# EAGLE library part 750342627 (library Wurth_Power Magnetics_WE-IBTI)
WE-IBTI Isolated Buck Transformers Characteristics Flybuck™ topology Operating Temp: -40°C to +125°C Excellent leakage inductance and interwinding capacitance performance Applications Industrial Programmable Logic Controllers (PLCs) Building automation and process control Isolated interface power: RS-422, RS-485, CAN, I2C, LAN Motor drive control, inverters and industrial automation Isolated low power drivers & regulators, smart e-meters Bias power supplies for gate drives and op-amps <https://www.we-online.com/components/media/o790826v209%20family-MID-IBTI.1673.jpg> Details see: www.we-online.com/en/components/products/WE-IBTI <www.we-online.com/catalog/WE-IBTI/?utm_source=eagle_model&utm_medium=description_link&utm_campaign=eisos_eagle> Created by Ella Wu 2024-06-07 2024 (C) Wurth Elektronik
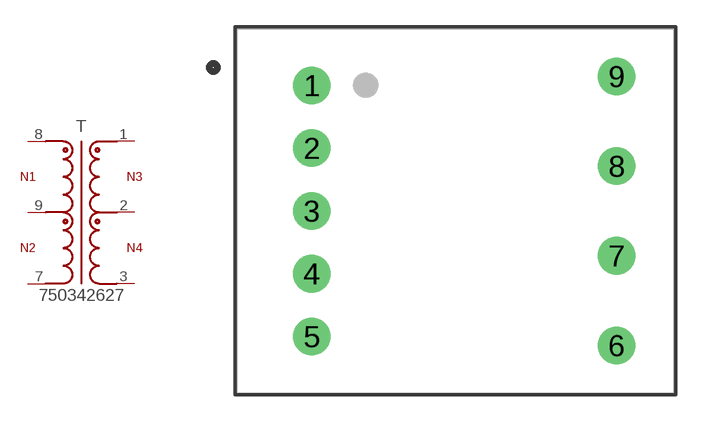
[diagram p28: symbol with the pads of WE-IBTI_EE16/8/5_L20.32W24.38H16; footprint WE-IBTI_EE16/8/5_L20.32W24.38H16]

Designator prefix T

## 750342627 (DATASHEET-URL: https://www.we-online.com/redexpert/spec/750342627?ae; FSWITCH: 200 - 350kHz; HEIGHT: 16mm; IOUT1: 250mA; ISAT: 2A; L: 20uH; LENGTH: 20.32mm; LS: 270nH; MOUNT: THT; N: 2.4:1; PART-NUMBER: 750342627; SIZE: EE16/8/5; VALUE: 750342627; VIN: 9 - 15 V (DC); VOUT1: 9V; VT: 4500V(AC); WIDTH: 24.38mm)  [WE-IBTI_EE16/8/5_L20.32W24.38H16]
1  1  pas
2  2  pas
3  3  pas
7  7  pas
8  8  pas
9  9  pas

## Footprint WE-IBTI_EE16/8/5_L20.32W24.38H16 (pad centres in mm)
WE-IBTI Isolated Buck Transformers Size: EE16/8/5,THT,9pins LXWXH=20.32X24.38X16mm
drill 1.4: 1 -8.5,7; 2 -8.5,3.5; 3 -8.5,0; 4 -8.5,-3.5; 5 -8.5,-7; 6 8.5,-7.5; 7 8.5,-2.5; 8 8.5,2.5; 9 8.5,7.5